# Altium schematic symbol library 2_传感器.schdoc.SCHLIB: 15 symbols
Pins are listed as number, name and electrical type; pins without a type are passive.

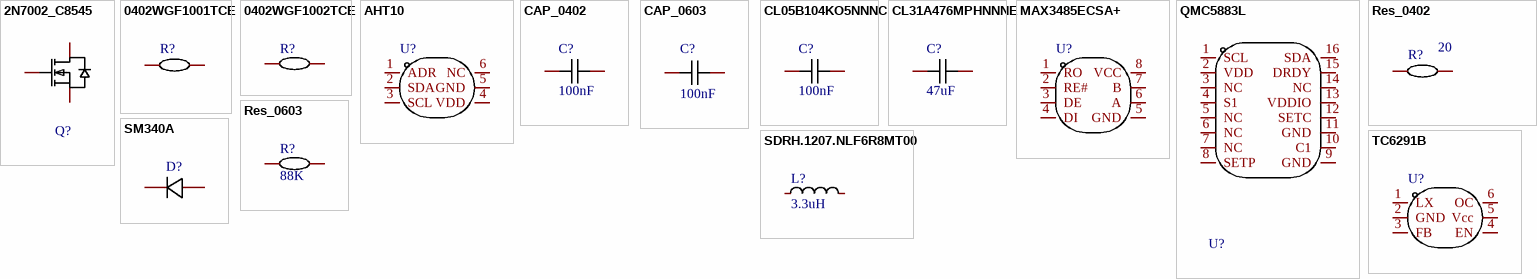
[diagram p0: symbols 2N7002_C8545 to TC6291B]

## 2N7002_C8545
designator Q?, comment 2N7002  (value not drawn)
Device: 2N7002_C8545; Add into BOM: yes; Drain Source Voltage (Vdss): 60V; Continuous Drain Current (Id): 115mA; Power Dissipation (Pd): 200mW; Gate Threshold Voltage (Vgs(th)@Id): 2.5V@250uA; Symbol: 2N7002; Supplier Part: C8545; Manufacturer Part: 2N7002; Supplier Footprint: SOT-23; JLCPCB Part Class: Basic Part; Datasheet: https://atta.szlcsc.com/upload/public/pdf/source/20170302/1488422688078.pdf; Supplier: LCSC; Convert to PCB: yes; Name: 2N7002
footprint SOT-23-3_L2.9-W1.3-P1.90-LS2.4-BR
3D model SOT-23-3P_L2.9-W1.3-H1.0-LS2.4-P0.95
pins: 1 G, 2 S, 3 D

## 0402WGF1001TCE
designator R?
Device: 0402WGF1001TCE; Add into BOM: yes; Power(Watts): 1/16W; Overload Voltage (Max): 50V; Supplier Part: C11702; Manufacturer Part: 0402WGF1001TCE; Supplier Footprint: 0402; JLCPCB Part Class: Basic Part; Datasheet: https://atta.szlcsc.com/upload/public/pdf/source/20180314/F614A0AEE69F33CBFC7409D8D3158E8B.pdf; Supplier: LCSC; Convert to PCB: yes
footprint 0402C
3D model R0402_L1.0-W0.5-H0.5
pins: 1, 2

## 0402WGF1002TCE
designator R?
Device: 0402WGF1002TCE; Add into BOM: yes; Power(Watts): 1/16W; Overload Voltage (Max): 50V; Supplier Part: C25744; Manufacturer Part: 0402WGF1002TCE; Supplier Footprint: 0402; JLCPCB Part Class: Basic Part; Datasheet: https://atta.szlcsc.com/upload/public/pdf/source/20170920/C25744_1505901522148983320.pdf; Supplier: LCSC; Convert to PCB: yes
footprint 0402C
3D model R0402_L1.0-W0.5-H0.5
pins: 1, 2

## AHT10
designator U?  (value not drawn)
Add into BOM: yes; Symbol: AHT10; Device: AHT10; LCSC Part Name: AHT10; Supplier Part: C368909; Manufacturer Part: AHT10; Supplier Footprint: SMD; JLCPCB Part Class: Extended Part; Datasheet: https://atta.szlcsc.com/upload/public/pdf/source/20190129/C368909_B294364A5189322D50DF5028F78C32FD.pdf; Supplier: LCSC; Convert to PCB: yes; Name: AHT10
footprint SENSOR-SMD_AHT10
3D model SENSOR-SMD_AHT10
pins: 1 ADR, 2 SDA, 3 SCL, 4 VDD, 5 GND, 6 NC

## CAP_0402
designator C?, comment 100nF
Symbol: CapAcitance; Device: CAP_0402; Convert to PCB: yes; Add into BOM: yes; Supplier Footprint: 0402; Value: 100nF; Name: 100nF
footprint 0402C
3D model C0402_L1.0-W0.5-H0.5
pins: 1, 2

## CAP_0603
designator C?, comment 100nF
Symbol: CapAcitance; Device: CAP_0603; Convert to PCB: yes; Add into BOM: yes; Supplier Footprint: 0603; Value: 100nF; Name: 100nF
footprint 0603C
3D model C0603_L1.6-W0.8-H0.8
pins: 1, 2

## CL05B104KO5NNNC
designator C?, comment 100nF
Symbol: CapAcitance; Device: CL05B104KO5NNNC; Add into BOM: yes; Temperature Coefficient: X7R; Voltage Rated: 16V; Supplier Part: C1525; Manufacturer Part: CL05B104KO5NNNC; Supplier Footprint: 0402; JLCPCB Part Class: Basic Part; Datasheet: https://atta.szlcsc.com/upload/public/pdf/source/20160103/1457707674891.pdf; Supplier: LCSC; Convert to PCB: yes; Value: 100nF; Name: 100nF
footprint 0402C
3D model C0402_L1.0-W0.5-H0.5
pins: 1, 2

## CL31A476MPHNNNE
designator C?, comment 47uF
Symbol: CL31A476MPHNNNE; Add into BOM: yes; Voltage Rated: 10V; Temperature Coefficient: X5R; Name: 47uF; Device: CL31A476MPHNNNE; Supplier Part: C96123; Manufacturer Part: CL31A476MPHNNNE; Supplier Footprint: 1206; JLCPCB Part Class: Basic Part; Datasheet: https://atta.szlcsc.com/upload/public/pdf/source/20170228/1488267692219.pdf; Supplier: LCSC; Convert to PCB: yes; Value: 47uF
footprint C1206
3D model C1206_L3.2-W1.6-H1.3
pins: 1, 2

## MAX3485ECSA+
designator U?  (value not drawn)
Add into BOM: yes; Symbol: MAX3485ECSA+; Device: MAX3485ECSA+; LCSC Part Name: MAX3485ECSA+; Supplier Part: C3235169; Manufacturer Part: MAX3485ECSA+; Supplier Footprint: SOIC-8; Datasheet: https://atta.szlcsc.comnull; Supplier: LCSC; Convert to PCB: yes; Name: MAX3485ECSA+
footprint SOIC-8_L4.9-W3.9-P1.27-LS6.0-BL
3D model SOIC-8_L4.9-W3.9-H1.7-LS6.0-P1.27
pins: 1 RO, 2 RE#, 3 DE, 4 DI, 5 GND, 6 A, 7 B, 8 VCC

## QMC5883L
designator U?  (value not drawn)
Add into BOM: yes; Symbol: QMC5883L; Device: QMC5883L; Supplier Part: C976032; Manufacturer Part: QMC5883L; Supplier Footprint: LGA-16(3x3x0.9); JLCPCB Part Class: Extended Part; Datasheet: https://atta.szlcsc.com/upload/public/pdf/source/20201217/C976032_5B9A2F3901E175046CBA037B1F18A1F2.pdf; Supplier: LCSC; Convert to PCB: yes; Name: QMC5883L
footprint LGA-16_L3.0-W3.0-P0.50-BL_SQ
3D model LGA-16_L3.0-W3.0-H0.9-P0.50
pins: 1 SCL, 2 VDD, 3 NC, 4 S1, 5 NC, 6 NC, 7 NC, 8 SETP, 9 GND, 10 C1, 11 GND, 12 SETC, 13 VDDIO, 14 NC, 15 DRDY, 16 SDA

## Res_0402
designator R?, comment 20
Device: Res_0402; Convert to PCB: yes; Add into BOM: yes; Supplier Footprint: 0402; Value: 20; Name: 20
footprint 0402C
3D model R0402_L1.0-W0.5-H0.5
pins: 1, 2

## Res_0603
designator R?, comment 88K
Device: Res_0603; Convert to PCB: yes; Add into BOM: yes; Supplier Footprint: 0603; Value: 88K; Name: 88K
footprint 0603C
3D model R0603
pins: 1, 2

## SDRH.1207.NLF6R8MT00
designator L?, comment 3.3uH
Symbol: SDRH.1207.NLF6R8MT00; Add into BOM: yes; Rated Current: 6.5A; Device: SDRH.1207.NLF6R8MT00; Supplier Part: C2942306; Manufacturer Part: SDRH.1207.NLF6R8MT00; Supplier Footprint: SMD,12x12mm; JLCPCB Part Class: Extended Part; Datasheet: https://atta.szlcsc.com/upload/public/pdf/source/20220117/7DF2F95CA0318327D9DA3D2F3A34BD2A.pdf; Supplier: LCSC; Convert to PCB: yes; Value: 3.3uH; Saturation Current (Isat): 6.5A; Name: 3.3uH
footprint IND-SMD_L12.0-W12.0
3D model SMD-PIND_L12.5-W12.5-H8.0
pins: 1, 2

## SM340A
designator D?  (value not drawn)
Add into BOM: yes; Reverse Voltage (Vr): 40V; Average Rectified Current (Io): 3A; Forward Voltage (Vf@If): 500mV@3A; Reverse Leakage Current (Ir): 500uA@40V; Symbol: SM340A; Device: SM340A; LCSC Part Name: 40V 3A 500mV@3A; Supplier Part: C383313; Manufacturer Part: SM340A; Supplier Footprint: SMA; JLCPCB Part Class: Extended Part; Datasheet: https://atta.szlcsc.com/upload/public/pdf/source/20190920/C430843_ABED4B4F72B8684687634A838AE6AE1F.pdf; Supplier: LCSC; Convert to PCB: yes; Name: SM340A
footprint SMA_L4.4-W2.6-LS5.0-RD
3D model SMA_L4.4-W2.6-LS5.0-RD
pins: 1 C, 2 A

## TC6291B
designator U?  (value not drawn)
Add into BOM: yes; Symbol: TC6291B; Device: TC6291B; LCSC Part Name: TC6291B; Supplier Part: C255544; Manufacturer Part: TC6291B; Supplier Footprint: SOT-23-6; JLCPCB Part Class: Extended Part; Datasheet: https://atta.szlcsc.com/upload/public/pdf/source/20190802/C255544_97B6CAF6A83540F83315B93F8D9D4482.pdf; Supplier: LCSC; Convert to PCB: yes; Name: TC6291B
footprint SOT-23-6_L2.9-W1.6-P0.95-LS2.8-BL
3D model SOT-23-6_L2.9-W1.6-H1.5-LS2.8-P0.95
pins: 1 LX, 2 GND, 3 FB, 4 EN, 5 Vcc, 6 OC